# Altium integrated library SN2032.IntLib: 1 symbol
Pins are listed as number, name and electrical type; pins without a type are passive.

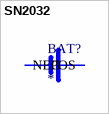
[diagram p0: symbol SN2032]

## SN2032
designator BAT?
Socket; 2032,BR2032,CR2032; horizontal; for PCB; H: 5.1mm; Ã˜: 20mm; MF: various; MP: SN 2032; Package: None; Price: None; Value: *; SnapEDA_Link: https://www.snapeda.com/parts/SN%202032/Code+3/view-part/?ref=snap; Availability: Not in stock; Check_prices: https://www.snapeda.com/parts/SN%202032/Code+3/view-part/?ref=eda
footprint SN2032
pins: NEG, POS